# EAGLE library part PHD_1X7 (library Ooo-Connectors)
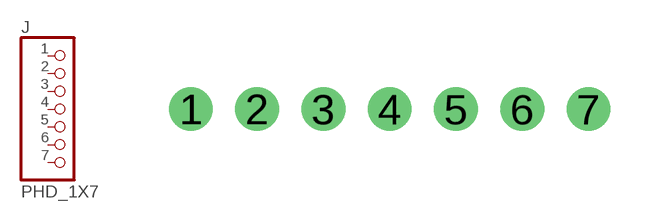
[diagram p10: symbol with the pads of PHD_1X7; footprint PHD_1X7]

Designator prefix J

## PHD_1X7  [PHD_1X7]
1  1  pas
2  2  pas
3  3  pas
4  4  pas
5  5  pas
6  6  pas
7  7  pas

## Footprint PHD_1X7 (pad centres in mm)
drill 1 pad 1.676: 1 0,0; 2 2.54,0; 3 5.08,0; 4 7.62,0; 5 10.16,0; 6 12.7,0; 7 15.24,0